# EAGLE library part ACPL-C790-000E (library Avago_By_element14_Batch_1)
Precision Miniature Isolation Amplifiers
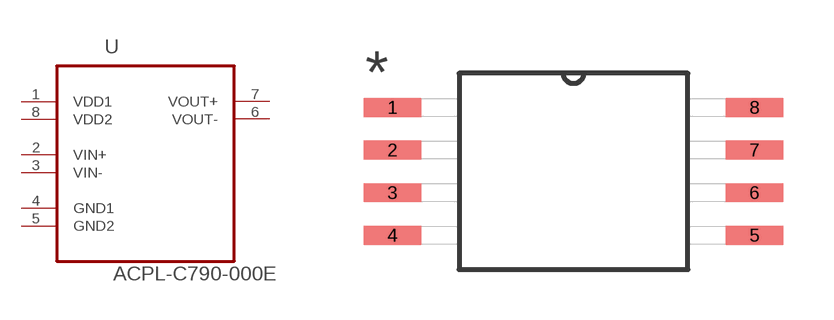
[diagram p8: symbol with the pads of SOIC127P1150X330-8N; footprint SOIC127P1150X330-8N]

Designator prefix U

## ACPL-C790-000E (DESCRIPTION: Precision Miniature Isolation Amplifiers; MPN: ACPL-C790-000E; OC_FARNELL: 1854250; OC_NEWARK: 74R5805; PACKAGE: SOIC-8; SUPPLIER: AVAGO TECHNOLOGIES)  [SOIC127P1150X330-8N]
1  VDD1  pwr
2  VIN+  in
3  VIN-  in
4  GND1  pas
5  GND2  pas
6  VOUT-  out
7  VOUT+  out
8  VDD2  pwr

## Footprint SOIC127P1150X330-8N (pad centres in mm)
smd 1.702 x 0.559: 1 -5.385,1.905; 2 -5.385,0.635; 3 -5.385,-0.635; 4 -5.385,-1.905; 5 5.385,-1.905; 6 5.385,-0.635; 7 5.385,0.635; 8 5.385,1.905